# Altium footprint library LQFP-48.PcbLib: 1 footprints
Each footprint in its own frame and in the unit in brackets; x right, y up, seen from the top. Pads: shape width x height; smd on the part's side, far side on the other; paste and mask are expansions set on the pad; w line width, h text height; cw(c..) or ccw(c..) is an arc to the next point about the centre after c.
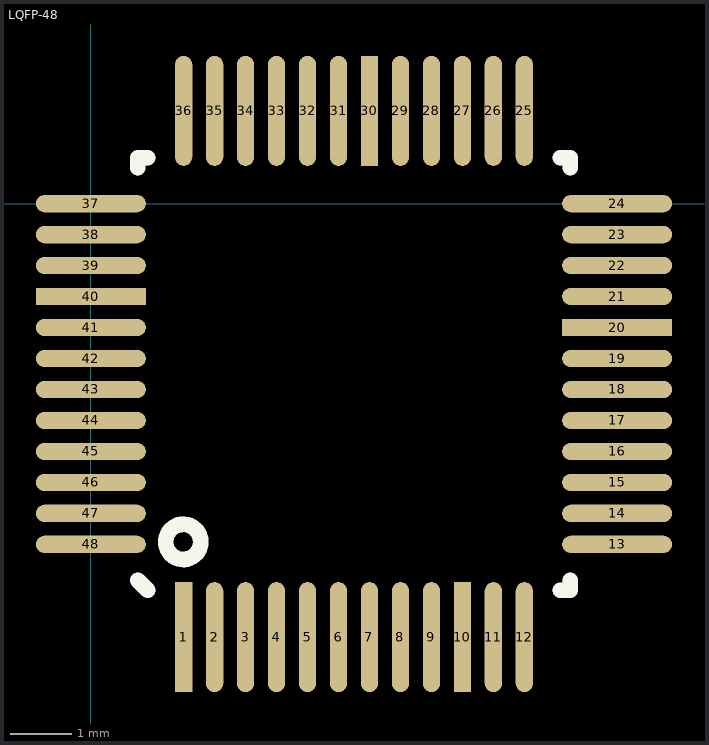
[diagram p0: the footprint, top view; thin cyan lines are the x and y axes]

## LQFP-48 [mil]
height 3
pads (48):
  rect 11x70 smd: 1(59.06,-275.59) 10(236.36,-275.59) 30(177.26,59.11)
  oval 11x70 smd: 2(78.76,-275.59) 3(98.46,-275.59) 4(118.16,-275.59) 5(137.86,-275.59) 6(157.56,-275.59) 7(177.26,-275.59) 8(196.96,-275.59) 9(216.66,-275.59) 11(256.06,-275.59) 12(275.76,-275.59) 25(275.76,59.11) 26(256.06,59.11) 27(236.36,59.11) 28(216.66,59.11) 29(196.96,59.11) 31(157.56,59.11) 32(137.86,59.11) 33(118.16,59.11) 34(98.46,59.11) 35(78.76,59.11) 36(59.06,59.11)
  oval 70x11 smd: 13(334.76,-216.59) 14(334.76,-196.89) 15(334.76,-177.19) 16(334.76,-157.49) 17(334.76,-137.79) 18(334.76,-118.09) 19(334.76,-98.39) 21(334.76,-58.99) 22(334.76,-39.29) 23(334.76,-19.59) 24(334.76,0.11) 37(0.06,0.11) 38(0.06,-19.59) 39(0.06,-39.29) 41(0.06,-78.69) 42(0.06,-98.39) 43(0.06,-118.09) 44(0.06,-137.79) 45(0.06,-157.49) 46(0.06,-177.19) 47(0.06,-196.89) 48(0.06,-216.59)
  rect 70x11 smd: 20(334.76,-78.69) 40(0.06,-58.99)
Top Overlay:
  circle w10: c58.82,-215 r11.18
  lines w10: 29.86,-239.49 36.16,-245.79 ; 29.86,23.01 29.86,29.21 36.16,29.21 ; 298.66,-245.79 304.86,-245.79 304.86,-239.49 ; 298.66,29.21 304.86,29.21 304.86,23.01
Mechanical 1:
  lines w10: 29.86,-239.49 36.16,-245.79 ; 29.86,23.01 29.86,29.21 36.16,29.21 ; 298.66,-245.79 304.86,-245.79 304.86,-239.49 ; 298.66,29.21 304.86,29.21 304.86,23.01
3D body: height 58.9, standoff -1.58, extent -10,-285.28 344.57,69.28